# EAGLE library part DS3862 (library unibus-dip)
Octal High Speed Trapezoidal Bus TransceiverBUS TRANSCEIVER
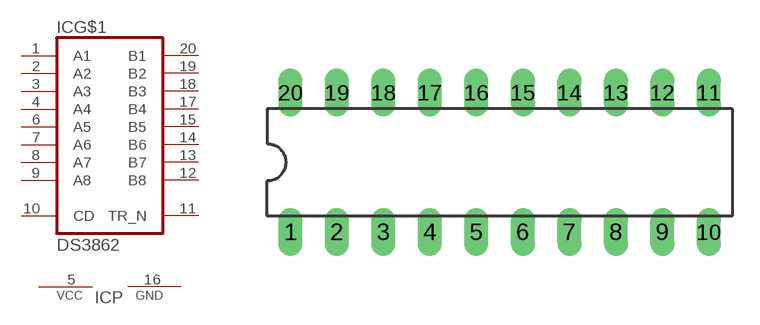
[diagram p1: symbol with the pads of DIL20; footprint DIL20]

Designator prefix IC; gates P=PWRN G$1=3862

## DS3862N  [DIL20]
1  G$1:A1
2  G$1:A2
3  G$1:A3
4  G$1:A4
5  P:VCC  pwr
6  G$1:A5
7  G$1:A6
8  G$1:A7
9  G$1:A8
10  G$1:CD  in
11  G$1:TR_N  in
12  G$1:B8  out
13  G$1:B7  out
14  G$1:B6  out
15  G$1:B5  out
16  P:GND  pwr
17  G$1:B4  out
18  G$1:B3  out
19  G$1:B2  out
20  G$1:B1  out

## Footprint DIL20 (pad centres in mm)
Dual In Line Package
drill 0.813 long: 1 -11.43,-3.81; 2 -8.89,-3.81; 3 -6.35,-3.81; 4 -3.81,-3.81; 5 -1.27,-3.81; 6 1.27,-3.81; 7 3.81,-3.81; 8 6.35,-3.81; 9 8.89,-3.81; 10 11.43,-3.81; 11 11.43,3.81; 12 8.89,3.81; 13 6.35,3.81; 14 3.81,3.81; 15 1.27,3.81; 16 -1.27,3.81; 17 -3.81,3.81; 18 -6.35,3.81; 19 -8.89,3.81; 20 -11.43,3.81